# Altium footprint library Molex Micro-Fit.PcbLib: 12 footprints
Each footprint in its own frame and in the unit in brackets; x right, y up, seen from the top. Pads: shape width x height; smd on the part's side, far side on the other; paste and mask are expansions set on the pad; w line width, h text height; cw(c..) or ccw(c..) is an arc to the next point about the centre after c.
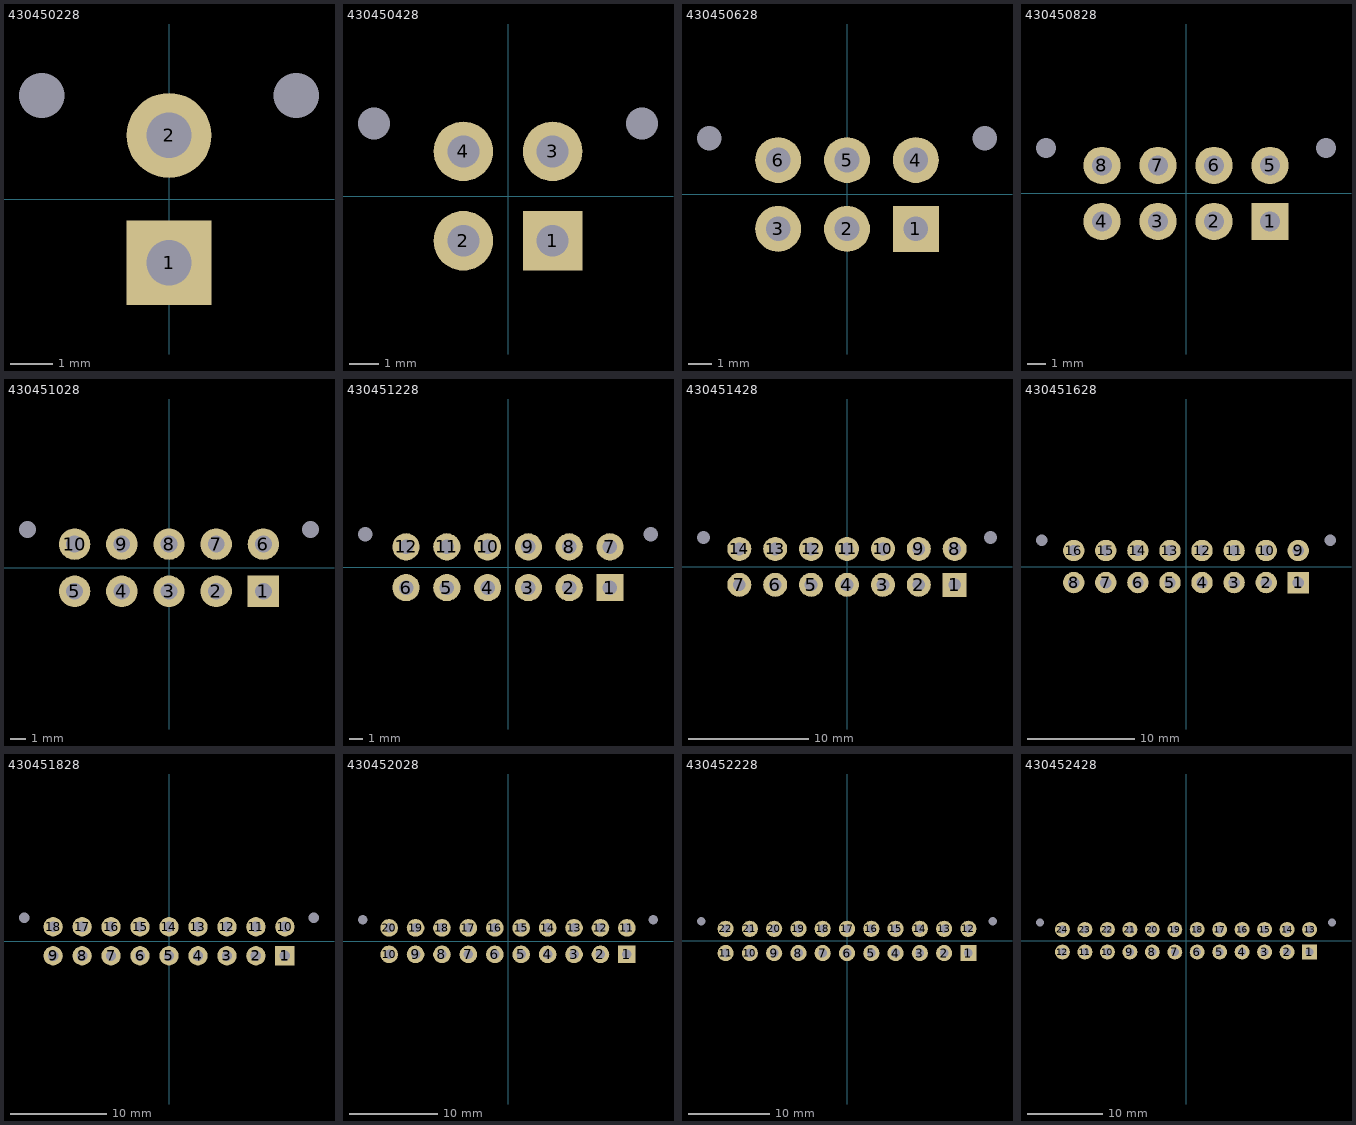
[diagram p0: the footprints below, top view; thin cyan lines are the x and y axes]

## 430450228 [mm] "MicroFit 1x2"
pads (4):
  rect 2x2 hole 1.07: 1(0,-1.5)
  round 2 hole 1.07: 2(0,1.5)
  round 0 hole 1.07: PEG(-3,2.44) PEG(3,2.44)
3D body "430450228.stp": height 10.15, standoff -2.94, extent -3.575,-3.97 3.575,4.8

## 430450428 [mm] "MicroFit 2x2"
pads (6):
  rect 2x2 hole 1.07: 1(1.5,-1.5)
  round 2 hole 1.07: 2(-1.5,-1.5) 3(1.5,1.5) 4(-1.5,1.5)
  round 0 hole 1.07: PEG(-4.5,2.44) PEG(4.5,2.44)
3D body "430450428.stp": height 10.15, standoff -2.94, extent -5.075,-3.97 5.075,4.8

## 430450628 [mm] "MicroFit 3x2"
pads (8):
  rect 2x2 hole 1.07: 1(3,-1.5)
  round 2 hole 1.07: 2(0,-1.5) 3(-3,-1.5) 4(3,1.5) 5(0,1.5) 6(-3,1.5)
  round 0 hole 1.07: PEG(-6,2.44) PEG(6,2.44)
3D body "430450628.stp": height 10.15, standoff -2.94, extent -6.575,-3.97 6.575,4.8

## 430450828 [mm] "MicroFit 4x2"
pads (10):
  rect 2x2 hole 1.07: 1(4.5,-1.5)
  round 2 hole 1.07: 2(1.5,-1.5) 3(-1.5,-1.5) 4(-4.5,-1.5) 5(4.5,1.5) 6(1.5,1.5) 7(-1.5,1.5) 8(-4.5,1.5)
  round 0 hole 1.07: PEG(-7.5,2.44) PEG(7.5,2.44)
3D body "430450828.stp": height 10.15, standoff -2.94, extent -8.075,-3.97 8.075,4.8

## 430451028 [mm] "MicroFit 5x2"
pads (12):
  rect 2x2 hole 1.07: 1(6,-1.5)
  round 2 hole 1.07: 2(3,-1.5) 3(0,-1.5) 4(-3,-1.5) 5(-6,-1.5) 6(6,1.5) 7(3,1.5) 8(0,1.5) 9(-3,1.5) 10(-6,1.5)
  round 0 hole 1.07: PEG(-9,2.44) PEG(9,2.44)
3D body "430451028.stp": height 10.15, standoff -2.94, extent -9.575,-3.97 9.575,4.8

## 430451228 [mm] "MicroFit 6x2"
pads (14):
  rect 2x2 hole 1.07: 1(7.5,-1.5)
  round 2 hole 1.07: 2(4.5,-1.5) 3(1.5,-1.5) 4(-1.5,-1.5) 5(-4.5,-1.5) 6(-7.5,-1.5) 7(7.5,1.5) 8(4.5,1.5) 9(1.5,1.5) 10(-1.5,1.5) 11(-4.5,1.5) 12(-7.5,1.5)
  round 0 hole 1.07: PEG(-10.5,2.44) PEG(10.5,2.44)
3D body "430451228.stp": height 10.15, standoff -2.94, extent -11.075,-3.97 11.075,4.8

## 430451428 [mm] "MicroFit 7x2"
pads (16):
  rect 2x2 hole 1.07: 1(9,-1.5)
  round 2 hole 1.07: 2(6,-1.5) 3(3,-1.5) 4(0,-1.5) 5(-3,-1.5) 6(-6,-1.5) 7(-9,-1.5) 8(9,1.5) 9(6,1.5) 10(3,1.5) 11(0,1.5) 12(-3,1.5) 13(-6,1.5) 14(-9,1.5)
  round 0 hole 1.07: PEG(-12,2.44) PEG(12,2.44)
3D body "430451428.stp": height 10.15, standoff -2.94, extent -12.575,-3.97 12.575,4.8

## 430451628 [mm] "MicroFit 8x2"
pads (18):
  rect 2x2 hole 1.07: 1(10.5,-1.5)
  round 2 hole 1.07: 2(7.5,-1.5) 3(4.5,-1.5) 4(1.5,-1.5) 5(-1.5,-1.5) 6(-4.5,-1.5) 7(-7.5,-1.5) 8(-10.5,-1.5) 9(10.5,1.5) 10(7.5,1.5) 11(4.5,1.5) 12(1.5,1.5) 13(-1.5,1.5) 14(-4.5,1.5) 15(-7.5,1.5) 16(-10.5,1.5)
  round 0 hole 1.07: PEG(-13.5,2.44) PEG(13.5,2.44)
3D body "430451628.stp": height 10.15, standoff -2.94, extent -14.075,-3.97 14.075,4.8

## 430451828 [mm] "MicroFit 9x2"
pads (20):
  rect 2x2 hole 1.07: 1(12,-1.5)
  round 2 hole 1.07: 2(9,-1.5) 3(6,-1.5) 4(3,-1.5) 5(0,-1.5) 6(-3,-1.5) 7(-6,-1.5) 8(-9,-1.5) 9(-12,-1.5) 10(12,1.5) 11(9,1.5) 12(6,1.5) 13(3,1.5) 14(0,1.5) 15(-3,1.5) 16(-6,1.5) 17(-9,1.5) 18(-12,1.5)
  round 0 hole 1.07: PEG(-15,2.44) PEG(15,2.44)
3D body "430451828.stp": height 10.15, standoff -2.94, extent -15.575,-3.97 15.575,4.8

## 430452028 [mm] "MicroFit 10x2"
pads (22):
  rect 2x2 hole 1.07: 1(13.5,-1.5)
  round 2 hole 1.07: 2(10.5,-1.5) 3(7.5,-1.5) 4(4.5,-1.5) 5(1.5,-1.5) 6(-1.5,-1.5) 7(-4.5,-1.5) 8(-7.5,-1.5) 9(-10.5,-1.5) 10(-13.5,-1.5) 11(13.5,1.5) 12(10.5,1.5) 13(7.5,1.5) 14(4.5,1.5) 15(1.5,1.5) 16(-1.5,1.5) 17(-4.5,1.5) 18(-7.5,1.5) 19(-10.5,1.5) 20(-13.5,1.5)
  round 0 hole 1.07: PEG(-16.5,2.44) PEG(16.5,2.44)
3D body "430452028.stp": height 10.15, standoff -2.94, extent -17.075,-3.97 17.075,4.8

## 430452228 [mm] "MicroFit 11x2"
pads (24):
  rect 2x2 hole 1.07: 1(15,-1.5)
  round 2 hole 1.07: 2(12,-1.5) 3(9,-1.5) 4(6,-1.5) 5(3,-1.5) 6(0,-1.5) 7(-3,-1.5) 8(-6,-1.5) 9(-9,-1.5) 10(-12,-1.5) 11(-15,-1.5) 12(15,1.5) 13(12,1.5) 14(9,1.5) 15(6,1.5) 16(3,1.5) 17(0,1.5) 18(-3,1.5) 19(-6,1.5) 20(-9,1.5) 21(-12,1.5) 22(-15,1.5)
  round 0 hole 1.07: PEG(-18,2.44) PEG(18,2.44)
3D body "430452228.stp": height 10.15, standoff -2.94, extent -18.575,-3.97 18.575,4.8

## 430452428 [mm] "MicroFit 12x2"
pads (26):
  rect 2x2 hole 1.07: 1(16.5,-1.5)
  round 2 hole 1.07: 2(13.5,-1.5) 3(10.5,-1.5) 4(7.5,-1.5) 5(4.5,-1.5) 6(1.5,-1.5) 7(-1.5,-1.5) 8(-4.5,-1.5) 9(-7.5,-1.5) 10(-10.5,-1.5) 11(-13.5,-1.5) 12(-16.5,-1.5) 13(16.5,1.5) 14(13.5,1.5) 15(10.5,1.5) 16(7.5,1.5) 17(4.5,1.5) 18(1.5,1.5) 19(-1.5,1.5) 20(-4.5,1.5) 21(-7.5,1.5) 22(-10.5,1.5) 23(-13.5,1.5) 24(-16.5,1.5)
  round 0 hole 1.07: PEG(-19.5,2.44) PEG(19.5,2.44)
3D body "430452428.stp": height 10.15, standoff -2.94, extent -20.075,-3.97 20.075,4.8